# Altium schematic symbol library CONN-2-PIN.SchLib: 1 symbol
Pins are listed as number, name and electrical type; pins without a type are passive.

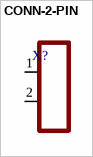
[diagram p0: symbol CONN-2-PIN]

## CONN-2-PIN
designator X?
footprint XH2
footprint XH2-
pins: 1, 2